# Altium schematic symbol library CD4093BPWR.Schlib: 1 symbol
Pins are listed as number, name and electrical type; pins without a type are passive.

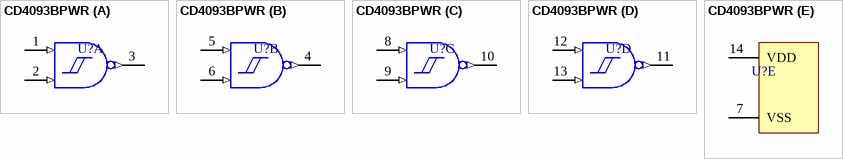
[diagram p0: symbol CD4093BPWR]

## CD4093BPWR
designator U?
part A pins: 1 A (in), 2 B (in), 3 J (out)
part B pins: 4 K (out), 5 C (in), 6 D (in)
part C pins: 8 E (in), 9 F (in), 10 L (out)
part D pins: 11 M (out), 12 G (in), 13 H (in)
part E pins: 7 VSS (power), 14 VDD (power)